# EAGLE library part CON-LSTB_MA08-1 (library masterclock)
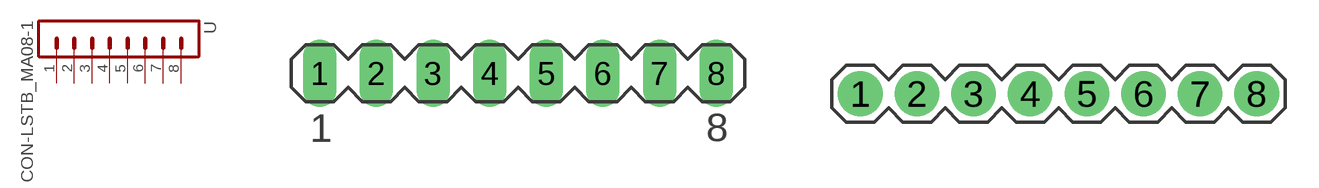
[diagram p1: symbol with the pads of CON-LSTB_MA08-1; footprints CON-LSTB_MA08-1, CON-LSTB-MA08-1-NS08]

Designator prefix -

## CON-LSTB_MA08-1  [CON-LSTB_MA08-1]
1  1  pas
2  2  pas
3  3  pas
4  4  pas
5  5  pas
6  6  pas
7  7  pas
8  8  pas

## CON-LSTB_MA08-108  [CON-LSTB-MA08-1-NS08]
Pads as for CON-LSTB_MA08-1

## CON-LSTB_MA08-1NS  [CON-LSTB-MA08-1-NS]
Pads as for CON-LSTB_MA08-1

## Footprint CON-LSTB_MA08-1 (pad centres in mm)
drill 1 long: 1 -8.89,0; 2 -6.35,0; 3 -3.81,0; 4 -1.27,0; 5 1.27,0; 6 3.81,0; 7 6.35,0; 8 8.89,0

## Footprint CON-LSTB-MA08-1-NS08 (pad centres in mm)
drill 0.8 pad 2: 1 -8.89,0; 2 -6.35,0; 3 -3.81,0; 4 -1.27,0; 5 1.27,0; 6 3.81,0; 7 6.35,0; 8 8.89,0

## Footprint CON-LSTB-MA08-1-NS (pad centres in mm)
drill 1 pad 2: 1 -8.89,0; 2 -6.35,0; 3 -3.81,0; 4 -1.27,0; 5 1.27,0; 6 3.81,0; 7 6.35,0; 8 8.89,0